# Altium footprint library PCBComponents.PcbLib: 2 footprints
Each footprint in its own frame and in the unit in brackets; x right, y up, seen from the top. Pads: shape width x height; smd on the part's side, far side on the other; paste and mask are expansions set on the pad; w line width, h text height; cw(c..) or ccw(c..) is an arc to the next point about the centre after c.
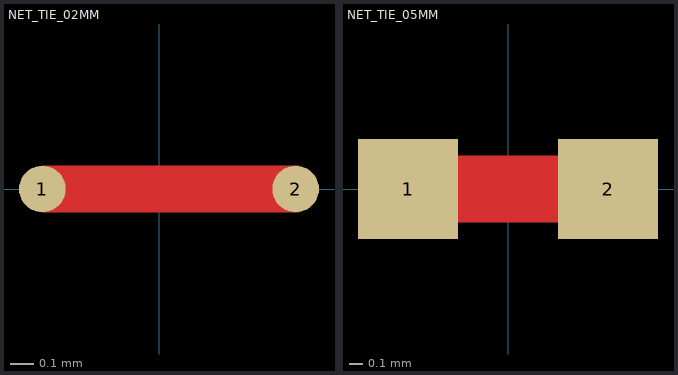
[diagram p0: the footprints below, top view; thin cyan lines are the x and y axes]

## NET_TIE_02MM [mm]
pads (2):
  round 0.2 smd: 1(-0.5,0) 2(0.584,0)
Top Layer:
  region: 0.6,0.1 -0.5,0.1 -0.5,-0.1 0.6,-0.1

## NET_TIE_05MM [mm]
pads (2):
  rect 0.75x0.75 smd mask+0: 1(-0.75,0) 2(0.75,0)
Top Layer:
  region: 0.55,0.25 -0.55,0.25 -0.55,-0.25 0.55,-0.25